# Altium schematic symbol library Fuse.SchLib: 2 symbols
Pins are listed as number, name and electrical type; pins without a type are passive.

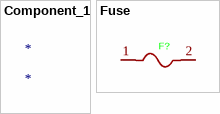
[diagram p0: symbols Component_1 to Fuse]

## Component_1
designator *

## Fuse
designator F?, comment 0437003.WR  (value not drawn)
50A SMD Fuse 3A 32V 1206 Disposable fuses ROHS; Manufacturer: Littelfuse(美国力特); Add into BOM: yes; Voltage Rating (DC): 35V; Symbol: 0437003.WR; Device: 0437003.WR; LCSC Part Name: 32V贴片式保险丝; Supplier Part: C99539; Manufacturer Part: 0437003.WR; Supplier Footprint: 1206; JLCPCB Part Class: Extended Part; Datasheet: https://atta.szlcsc.com/upload/public/pdf/source/20170322/1490151740362.pdf; Supplier: LCSC; Convert to PCB: yes; Type: SMD Fuse; Current Rating: 3A; Voltage Rating  (AC): 32V; Operating Temperature: -55℃~+150℃; Breaking Capacity: 50A
footprint F1206
3D model F1206_L3.2-W1.7-H0.6
pins: 1, 2